# Altium footprint library USB-eVo.PcbLib: 12 footprints
Each footprint in its own frame and in the unit in brackets; x right, y up, seen from the top. Pads: shape width x height; smd on the part's side, far side on the other; paste and mask are expansions set on the pad; w line width, h text height; cw(c..) or ccw(c..) is an arc to the next point about the centre after c.
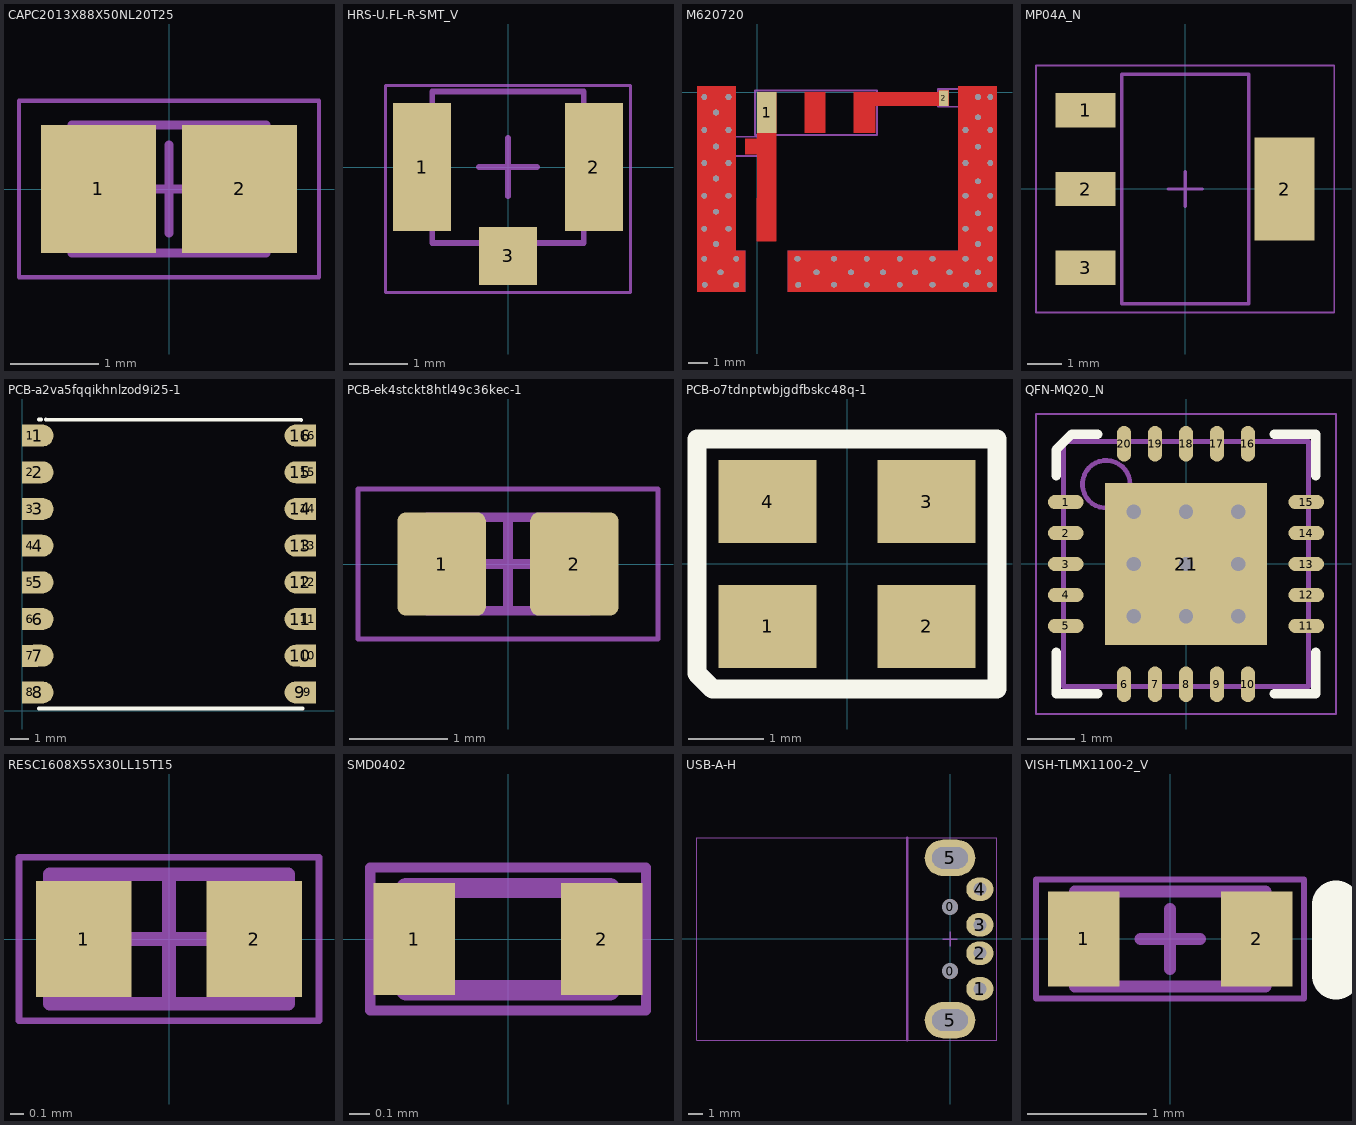
[diagram p0: the footprints below, top view; thin cyan lines are the x and y axes]

## CAPC2013X88X50NL20T25 [mm] "CAPC2013X88X50NL20T25"
height 0.88
pads (2):
  rect 1.3x1.45 smd: 1(-0.8,0) 2(0.8,0)
Mechanical 13:
  lines w0.1: -1.1,-0.725 -1.1,0.725 1.1,0.725 1.1,-0.725 -1.1,-0.725
Mechanical 15:
  lines w0.05: -1.7,-1 -1.7,1 1.7,1 1.7,-1 -1.7,-1
  lines w0.1: -0.5,0 0.5,0 ; 0,-0.5 0,0.5
3D body: height 0.88, standoff 0, extent -0.6,-0.725 0.6,0.725
3D body: height 0.88, standoff 0, extent -1.1,-0.725 -0.6,0.725
3D body: height 0.88, standoff 0, extent 0.6,-0.725 1.1,0.725

## HRS-U.FL-R-SMT_V [mm] "SMD, 3-Leads, Body 2.6x2.6mm"
height 1.25
pads (3):
  rect 1x2.2 smd: 1(-1.475,0) 2(1.475,0)
  rect 1x1 smd: 3(0,-1.525)
Mechanical 13:
  lines w0.1: -1.3,-1.3 1.3,-1.3 1.3,1.3 -1.3,1.3 -1.3,-1.3
Mechanical 15:
  lines w0.05: -2.1,-2.15 2.1,-2.15 2.1,1.4 -2.1,1.4 -2.1,-2.15
  lines w0.1: -0.5,0 0.5,0 ; 0,-0.5 0,0.5
3D body: height 0.35, standoff 0, extent -1.3,-1.3 1.3,1.3
3D body: height 1.25, standoff 0, extent -0.999,-1 1,1

## M620720 [mm]
pads (4):
  rect 1x2.1 smd: 1(0.5,-1.05)
  rect 0.5x0.8 smd: 2(9.65,-0.3)
  round 0.3 hole 0.3 mask+0.102: GND(-1.07,-9.95) GND(2.13,-9.95)
via -2.7,-9.95 diameter 0.3 hole 0.3
via 10.8,-9.95 diameter 0.3 hole 0.3
via 3.975,-9.95 diameter 0.3 hole 0.3
via 5.675,-9.95 diameter 0.3 hole 0.3
via 7.375,-9.95 diameter 0.3 hole 0.3
via 9.075,-9.95 diameter 0.3 hole 0.3
via 3.975,-8.6 diameter 0.3 hole 0.3
via 5.675,-8.6 diameter 0.3 hole 0.3
via 7.375,-8.6 diameter 0.3 hole 0.3
via 9.075,-8.6 diameter 0.3 hole 0.3
via 10.775,-8.6 diameter 0.3 hole 0.3
via 12.05,-8.6 diameter 0.3 hole 0.3
via 12.05,-7.05 diameter 0.3 hole 0.3
via 12.05,-5.35 diameter 0.3 hole 0.3
via 12.025,-9.95 diameter 0.3 hole 0.3
via 10.775,-5.35 diameter 0.3 hole 0.3
via 12.05,-3.65 diameter 0.3 hole 0.3
via 10.775,-3.65 diameter 0.3 hole 0.3
via 10.775,-1.95 diameter 0.3 hole 0.3
via 11.425,-0.25 diameter 0.3 hole 0.3
via -2.725,-8.6 diameter 0.3 hole 0.3
via 10.775,-7.05 diameter 0.3 hole 0.3
via 12.05,-1.95 diameter 0.3 hole 0.3
via -2.725,-0.25 diameter 0.3 hole 0.3
via -2.725,-7.05 diameter 0.3 hole 0.3
via -2.725,-5.35 diameter 0.3 hole 0.3
via -2.725,-3.65 diameter 0.3 hole 0.3
via -2.725,-1.95 diameter 0.3 hole 0.3
via -1.475,-5.35 diameter 0.3 hole 0.3
via -1.475,-7.05 diameter 0.3 hole 0.3
via -1.475,-3.65 diameter 0.3 hole 0.3
via -1.475,-1.95 diameter 0.3 hole 0.3
via -1.475,-0.25 diameter 0.3 hole 0.3
via 2.1,-8.6 diameter 0.3 hole 0.3
via -1.07,-8.6 diameter 0.3 hole 0.3
via -1.884,-9.3 diameter 0.3 hole 0.3
via 11.425,-9.3 diameter 0.3 hole 0.3
via 9.939,-9.3 diameter 0.3 hole 0.3
via 8.161,-9.3 diameter 0.3 hole 0.3
via 6.51,-9.3 diameter 0.3 hole 0.3
via 4.859,-9.3 diameter 0.3 hole 0.3
via 3.081,-9.3 diameter 0.3 hole 0.3
via 11.425,-7.849 diameter 0.3 hole 0.3
via 11.425,-6.25 diameter 0.3 hole 0.3
via 11.425,-4.599 diameter 0.3 hole 0.3
via 11.425,-2.821 diameter 0.3 hole 0.3
via 12.054,-0.251 diameter 0.3 hole 0.3
via 11.425,-1.297 diameter 0.3 hole 0.3
via -2.125,-1.043 diameter 0.3 hole 0.3
via -2.125,-2.802 diameter 0.3 hole 0.3
via -2.125,-4.457 diameter 0.3 hole 0.3
via -2.125,-7.846 diameter 0.3 hole 0.3
via -2.125,-6.175 diameter 0.3 hole 0.3
Top Layer:
  rectangle: 2.45,-2.1 3.55,0
  rectangle: 9.4,-0.7 9.9,0
  region: 12.4,0.3 12.4,-10.3 1.6,-10.3 1.6,-8.2 10.4,-8.2 10.4,0.3
  region: -3.1,0.3 -1.1,0.3 -1.1,-8.2 -0.6,-8.2 -0.6,-10.3 -3.1,-10.3
  region: 5,0 9.4,0 9.4,0.1 9.9,0.1 9.9,0 9.9,-0.7 6.1,-0.7 6.1,-2.1 5,-2.1
  region: 0,0 1,0 1,-7.7 0,-7.7 0,-3.2 -0.6,-3.2 -0.6,-2.4 0,-2.4
Bottom Layer:
  region: -1.1,0.3 -1.1,-8.2 -0.6,-8.2 -0.6,-10.3 -3.1,-10.3 -3.1,0.3
  region: 1.6,-8.2 1.6,-10.3 12.4,-10.3 12.4,0.3 10.4,0.3 10.4,-8.2
Top Paste:
  rectangle: 2.45,-2.1 3.55,0
  rectangle: 5,-2.1 6.1,0
  rectangle: -1.6,-3.2 -1.1,-2.4
  rectangle: -0.6,-3.2 -0.1,-2.4
  rectangle: 10.4,-0.7 10.9,0.1
Top Solder:
  rectangle: -0.1,-2.2 1.1,0.1
  rectangle: 2.35,-2.2 3.65,0.1
  rectangle: 4.9,-2.2 6.2,0.1
  rectangle: 9.3,-0.8 10,0.2
  rectangle: 10.3,-0.8 11,0.2
  rectangle: -1.7,-3.3 -0.975,-2.3
  rectangle: -0.7,-3.3 0,-2.3
Mechanical 15:
  lines w0.1: -1.65,-3.299 0.05,-3.299 0.05,-2.3 -1.65,-2.3 -1.65,-3.299 ; -0.1,-2.2 -0.1,0.1 6.2,0.1 6.2,-2.2 -0.1,-2.2 ; 9.35,-0.75 9.35,0.157 10.95,0.157 10.95,-0.75 9.35,-0.75
3D body: height 1, standoff 0, extent -0.1,-2.2 6.199,0.1

## MP04A_N [mm] "SOT223, 4-Leads, Body 6.5x3.5mm, Pitch 2.3mm, Lead Span 7mm, IPC Medium Density"
height 1.8
pads (4):
  rect 1.75x1 smd: 1(-2.9,2.3) 2(-2.9,0) 3(-2.9,-2.3)
  rect 1.75x3 smd: 2(2.9,0)
Mechanical 13:
  lines w0.1: -1.855,-3.35 1.855,-3.35 1.855,3.35 -1.855,3.35 -1.855,-3.35
Mechanical 15:
  lines w0.05: -4.35,-3.6 4.35,-3.6 4.35,3.6 -4.35,3.6 -4.35,-3.6
  lines w0.1: -0.5,0 0.5,0 ; 0,-0.5 0,0.5
3D body "SOT223-3.step": height 1.6, standoff 0, extent -3.531,-3.3 3.543,3.2

## PCB-a2va5fqqikhnlzod9i25-1 [mm]
pads (32):
  rect 0.85x1.2 smd: 1(0.42,14.999) 2(0.42,12.999) 3(0.42,10.999) 4(0.42,8.999) 5(0.42,6.999) 6(0.42,4.999) 7(0.42,2.999) 8(0.42,0.999) 9(15.574,0.999) 10(15.574,2.999) 11(15.574,4.999) 12(15.574,6.999) 13(15.574,8.999) 14(15.574,10.999) 15(15.574,12.999) 16(15.574,14.999)
  oval 1.7x1.2 smd: 1(0.85,15) 2(0.85,13) 3(0.85,11) 4(0.85,9) 5(0.85,7) 6(0.85,5) 7(0.85,3) 8(0.85,1) 9(15.15,1) 10(15.15,3) 11(15.15,5) 12(15.15,7) 13(15.15,9) 14(15.15,11) 15(15.15,13) 16(15.15,15)
Top Overlay:
  lines w0.2: 0.889,0.127 15.289,0.127 ; 0.889,15.875 1.016,15.875 ; 1.27,15.875 15.2,15.848
3D body: height 2.1, standoff 0, extent 0,0 16,15.975

## PCB-ek4stckt8htl49c36kec-1 [mm] "RESC1609X50X30ML10T20"
height 0.5
pads (2):
  rrect20% 0.9x1.05 smd: 1(-0.675,0) 2(0.675,0)
Mechanical 13:
  lines w0.1: -0.825,-0.475 0.825,-0.475 0.825,0.475 -0.825,0.475 -0.825,-0.475
Mechanical 15:
  lines w0.05: -1.524,-0.762 1.524,-0.762 1.524,0.762 -1.524,0.762 -1.524,-0.762
  lines w0.1: -0.475,0 0.475,0 ; 0,-0.475 0,0.475
3D body: height 0.87, standoff 0, extent -0.525,-0.475 0.525,0.475
3D body: height 0.87, standoff 0, extent -0.875,-0.475 -0.525,0.475
3D body: height 0.87, standoff 0, extent 0.525,-0.475 0.875,0.475

## PCB-o7tdnptwbjgdfbskc48q-1 [mm] "Quartz Crystal, Body 5.0 x 3.2 mm, Height 1.05mm"
height 1.05
pads (4):
  rect 1.3x1.1 smd: 1(-1.05,-0.825) 2(1.05,-0.825) 3(1.05,0.825) 4(-1.05,0.825)
Top Overlay:
  lines w0.254: -1.981,-1.447 -1.981,1.651 1.981,1.651 1.981,-1.651 -1.778,-1.651 -1.981,-1.447
3D body "ASE.STEP": height 1.2, standoff 0, extent -1.6,-1.25 1.6,1.25

## QFN-MQ20_N [mm] "QFN, 20-Leads, Body 5x5mm, Pitch 0.65mm, Thermal Pad 3.4x3.4mm, IPC Medium Density"
height 1
pads (21):
  oval 0.75x0.3 smd: 1(-2.525,1.3) 2(-2.525,0.65) 3(-2.525,0) 4(-2.525,-0.65) 5(-2.525,-1.3) 11(2.525,-1.3) 12(2.525,-0.65) 13(2.525,0) 14(2.525,0.65) 15(2.525,1.3)
  oval 0.3x0.75 smd: 6(-1.3,-2.525) 7(-0.65,-2.525) 8(0,-2.525) 9(0.65,-2.525) 10(1.3,-2.525) 16(1.3,2.525) 17(0.65,2.525) 18(0,2.525) 19(-0.65,2.525) 20(-1.3,2.525)
  rect 3.4x3.4 smd: 21(0,0)
via 1.1,0 diameter 0.5 hole 0.3
via 1.1,-1.1 diameter 0.5 hole 0.3
via 0,-1.1 diameter 0.5 hole 0.3
via 0,0 diameter 0.5 hole 0.3
via -1.1,-1.1 diameter 0.5 hole 0.3
via -1.1,1.1 diameter 0.5 hole 0.3
via 0,1.1 diameter 0.5 hole 0.3
via -1.1,0 diameter 0.5 hole 0.3
via 1.1,1.1 diameter 0.5 hole 0.3
Top Overlay:
  lines w0.2: -2.725,-1.85 -2.725,-2.725 -1.85,-2.725 ; -2.725,1.85 -2.725,2.403 -2.403,2.725 -1.85,2.725 ; 1.85,-2.725 2.725,-2.725 2.725,-1.85 ; 1.85,2.725 2.725,2.725 2.725,1.85
Mechanical 13:
  circle w0.1: c-1.675,1.675 r0.5
  lines w0.1: -2.575,-2.575 -2.575,2.575 2.575,2.575 2.575,-2.575 -2.575,-2.575
Mechanical 15:
  lines w0.05: -3.15,-3.15 -3.15,3.15 3.15,3.15 3.15,-3.15 -3.15,-3.15
  lines w0.1: -0.5,0 0.5,0 ; 0,-0.5 0,0.5
3D body: height 1, standoff 0, extent -2.575,-2.575 2.575,2.575

## RESC1608X55X30LL15T15 [mm] "RESC1608X55X30LL15T15"
height 0.55
pads (2):
  rect 0.7x0.85 smd: 1(-0.625,0) 2(0.625,0)
Mechanical 13:
  lines w0.1: -0.875,-0.475 -0.875,0.475 0.875,0.475 0.875,-0.475 -0.875,-0.475
Mechanical 15:
  lines w0.05: -1.1,-0.6 -1.1,0.6 1.1,0.6 1.1,-0.6 -1.1,-0.6
  lines w0.1: -0.475,0 0.475,0 ; 0,-0.475 0,0.475
3D body: height 0.55, standoff 0, extent -0.575,-0.475 0.575,0.475
3D body: height 0.55, standoff 0, extent -0.875,-0.475 -0.575,0.475
3D body: height 0.55, standoff 0, extent 0.575,-0.475 0.875,0.475

## SMD0402 [mm]
pads (2):
  rect 0.4x0.55 smd: 1(-0.46,0) 2(0.46,0)
Mechanical 13:
  lines w0.1: -0.5,-0.25 -0.5,0.25 0.5,0.25 0.5,-0.25 -0.5,-0.25
Mechanical 15:
  lines w0.05: -0.675,-0.349 -0.675,0.35 0.676,0.35 0.676,-0.349 -0.675,-0.349
3D body "BLM15AX601SN1D.stp": height 0.55, standoff 0, extent -0.5,-0.25 0.5,0.25

## USB-A-H [mm] "USB-A-H"
pads (8):
  round 1.1 hole 1.1 unplated: 0(0,-2.25) 0(0,2.25)
  oval 1.905x1.651 hole 0.914: 1(2.1,-3.5) 2(2.1,-1) 3(2.1,1) 4(2.1,3.5)
  oval 3.556x2.556 hole 1.515 slot 2.515 at 0 deg: 5(0,-5.7) 5(0,5.7)
Mechanical 15:
  lines w0.05: -17.78,-7.112 3.302,-7.112 3.302,7.112 -17.78,7.112 -17.78,-7.112
  lines w0.1: -0.508,0 0.508,0 ; 0,-0.508 0,0.508
  lines w0.2: -3,-7.112 -3,7.112
3D body "48037-0001.step": height 4.53, standoff -1.44, extent -17.794,-6.348 2.231,6.348

## VISH-TLMX1100-2_V [mm] "SMD, 2-Leads, Body 1.6x0.8mm"
height 0.65
pads (2):
  rect 0.6x0.8 smd: 1(-0.725,0) 2(0.725,0)
Top Overlay:
  lines w0.4: 1.392,-0.309 1.392,0.291
Mechanical 13:
  lines w0.1: -0.8,-0.4 -0.8,0.4 0.8,0.4 0.8,-0.4 -0.8,-0.4
Mechanical 15:
  lines w0.05: -1.125,-0.5 -1.125,0.5 1.125,0.5 1.125,-0.5 -1.125,-0.5
  lines w0.1: -0.25,0 0.25,0 ; 0,-0.25 0,0.25
3D body: height 0.65, standoff 0, extent -0.8,-0.4 0.8,0.4